# Altium schematic symbol library SCH - POWER - LINEAR VREG - TI LP38693-ADJ_NGG_6.SchLib: 1 symbol
Pins are listed as number, name and electrical type; pins without a type are passive.

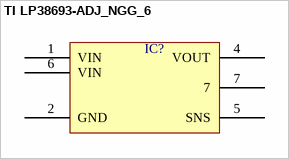
[diagram p0: symbol TI LP38693-ADJ_NGG_6]

## TI LP38693-ADJ_NGG_6
designator IC?  (value not drawn)
pins: 1 VIN, 2 GND, 4 VOUT, 5 SNS, 6 VIN, 7